# Altium footprint library SecurityLibrary.PcbLib: 34 footprints (part 3 of 3)
Each footprint in its own frame and in the unit in brackets; x right, y up, seen from the top. Pads: shape width x height; smd on the part's side, far side on the other; paste and mask are expansions set on the pad; w line width, h text height; cw(c..) or ccw(c..) is an arc to the next point about the centre after c.
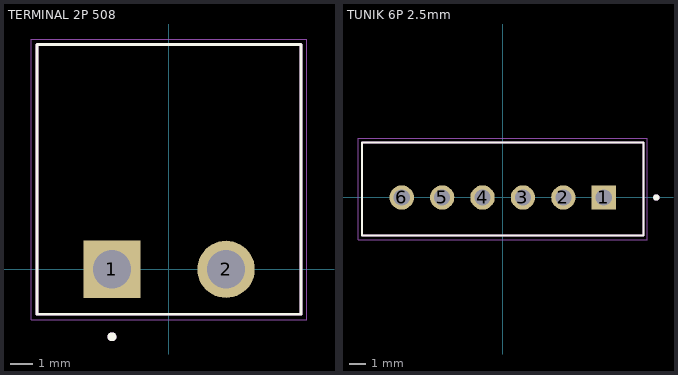
[diagram p2: the footprints below, top view; thin cyan lines are the x and y axes]

## TERMINAL 2P 508 [mm]
pads (2):
  rect 2.55x2.55 / inner round 2.55 / far side rect 2.55x2.55 hole 1.7: 1(-2.54,0)
  round 2.55 hole 1.7: 2(2.54,0)
Top Overlay:
  circle w0.2: c-2.54,-3 r0.1
  lines w0.127: -5.88,-2 -5.88,10 5.88,10 5.88,-2 -5.88,-2
Top 3D Body (Mech13):
  circle w0.2: c-2.54,-3 r0.1
  lines w0.127: -5.88,-2 -5.88,10 5.88,10 5.88,-2 -5.88,-2
Mechanical 15:
  lines w0.05: -6.13,-2.25 6.13,-2.25 6.13,10.25 -6.13,10.25 -6.13,-2.25
3D body "CUI_DEVICES_TBP01R1-508-02BE.step": height 8.5, standoff -4, extent -5.88,-2 5.88,10

## TUNIK 6P 2.5mm [mm]
pads (6):
  rect 1.508x1.508 / inner round 1.508 / far side rect 1.508x1.508 hole 1: 1(6.25,0)
  round 1.508 hole 1: 2(3.75,0) 3(1.25,0) 4(-1.25,0) 5(-3.75,0) 6(-6.25,0)
Top Overlay:
  circle w0.2: c9.5,0 r0.1
  lines w0.127: -8.7,-2.35 8.7,-2.35 8.7,3.4 -8.7,3.4 -8.7,-2.35
Top 3D Body (Mech13):
  circle w0.2: c9.5,0 r0.1
  lines w0.127: -8.7,-2.35 8.7,-2.35 8.7,3.4 -8.7,3.4 -8.7,-2.35
Mechanical 15:
  lines w0.05: -8.95,-2.6 8.95,-2.6 8.95,3.65 -8.95,3.65 -8.95,-2.6
3D body "step_temp.STEP": height 7, standoff -3.4, extent -8.7,-2.35 8.7,3.4